# Altium footprint library Connector_PinSocket_2.00mm.PcbLib: 278 footprints (part 17 of 18)
Each footprint in its own frame and in the unit in brackets; x right, y up, seen from the top. Pads: shape width x height; smd on the part's side, far side on the other; paste and mask are expansions set on the pad; w line width, h text height; cw(c..) or ccw(c..) is an arc to the next point about the centre after c.
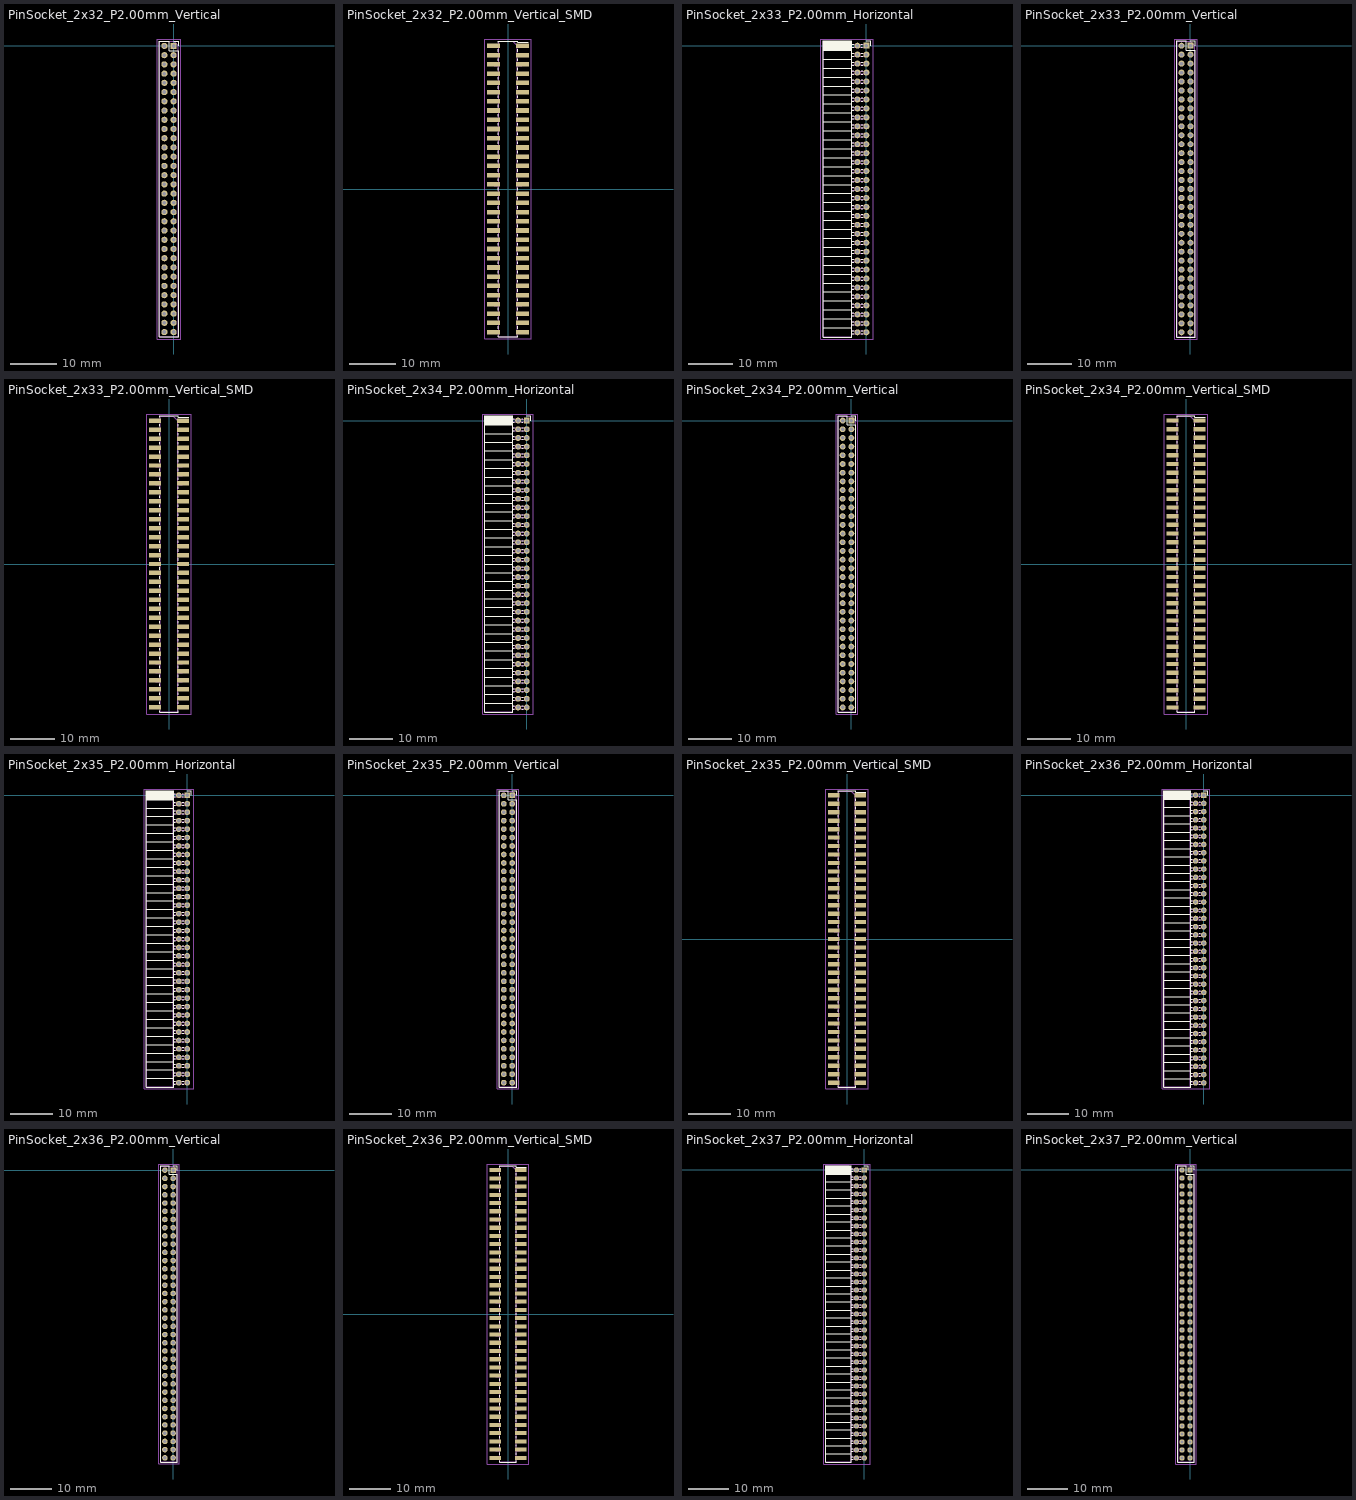
[diagram p16: the footprints below, top view; thin cyan lines are the x and y axes]

## PinSocket_2x32_P2.00mm_Vertical [mm]
pads (64):
  rect 1.35x1.35 hole 0.8: 1(0,0)
  round 1.35 hole 0.8: 2(-2,0) 3(0,-2) 4(-2,-2) 5(0,-4) 6(-2,-4) 7(0,-6) 8(-2,-6) 9(0,-8) 10(-2,-8) 11(0,-10) 12(-2,-10) 13(0,-12) 14(-2,-12) 15(0,-14) 16(-2,-14) 17(0,-16) 18(-2,-16) 19(0,-18) 20(-2,-18) 21(0,-20) 22(-2,-20) 23(0,-22) 24(-2,-22) 25(0,-24) 26(-2,-24) 27(0,-26) 28(-2,-26) 29(0,-28) 30(-2,-28) 31(0,-30) 32(-2,-30) 33(0,-32) 34(-2,-32) 35(0,-34) 36(-2,-34) 37(0,-36) 38(-2,-36) 39(0,-38) 40(-2,-38) 41(0,-40) 42(-2,-40) 43(0,-42) 44(-2,-42) 45(0,-44) 46(-2,-44) 47(0,-46) 48(-2,-46) 49(0,-48) 50(-2,-48) 51(0,-50) 52(-2,-50) 53(0,-52) 54(-2,-52) 55(0,-54) 56(-2,-54) 57(0,-56) 58(-2,-56) 59(0,-58) 60(-2,-58) 61(0,-60) 62(-2,-60) 63(0,-62) 64(-2,-62)
F.SilkS:
  lines w0.254: 0,1.06 1.06,1.06 1.06,0 ; -3.06,-63.06 1.06,-63.06 1.06,-1 -1,-1 -1,1.06 -3.06,1.06 -3.06,-63.06
Top Assembly:
  lines w0.254: -3,-63 1,-63 1,0 0,1 -3,1 -3,-63
  text "'.Designator'" at -0.16,-35.047 h1
Top Courtyard:
  lines w0.254: -3.5,-63.5 1.5,-63.5 1.5,1.5 -3.5,1.5 -3.5,-63.5
Top Designator:
  text ".Designator" at -8.618,-31.508 h1.52

## PinSocket_2x32_P2.00mm_Vertical_SMD [mm]
pads (64):
  rect 2.75x1 smd: 1(3.125,31) 2(-3.125,31) 3(3.125,29) 4(-3.125,29) 5(3.125,27) 6(-3.125,27) 7(3.125,25) 8(-3.125,25) 9(3.125,23) 10(-3.125,23) 11(3.125,21) 12(-3.125,21) 13(3.125,19) 14(-3.125,19) 15(3.125,17) 16(-3.125,17) 17(3.125,15) 18(-3.125,15) 19(3.125,13) 20(-3.125,13) 21(3.125,11) 22(-3.125,11) 23(3.125,9) 24(-3.125,9) 25(3.125,7) 26(-3.125,7) 27(3.125,5) 28(-3.125,5) 29(3.125,3) 30(-3.125,3) 31(3.125,1) 32(-3.125,1) 33(3.125,-1) 34(-3.125,-1) 35(3.125,-3) 36(-3.125,-3) 37(3.125,-5) 38(-3.125,-5) 39(3.125,-7) 40(-3.125,-7) 41(3.125,-9) 42(-3.125,-9) 43(3.125,-11) 44(-3.125,-11) 45(3.125,-13) 46(-3.125,-13) 47(3.125,-15) 48(-3.125,-15) 49(3.125,-17) 50(-3.125,-17) 51(3.125,-19) 52(-3.125,-19) 53(3.125,-21) 54(-3.125,-21) 55(3.125,-23) 56(-3.125,-23) 57(3.125,-25) 58(-3.125,-25) 59(3.125,-27) 60(-3.125,-27) 61(3.125,-29) 62(-3.125,-29) 63(3.125,-31) 64(-3.125,-31)
F.SilkS:
  lines w0.254: -2.06,-31.76 -2.06,-32.06 2.06,-32.06 2.06,-31.76 ; -2.06,-30.24 -2.06,-29.76 ; -2.06,-28.24 -2.06,-27.76 ; -2.06,-26.24 -2.06,-25.76 ; -2.06,-24.24 -2.06,-23.76 ; -2.06,-22.24 -2.06,-21.76 ; -2.06,-20.24 -2.06,-19.76 ; -2.06,-18.24 -2.06,-17.76 ; -2.06,-16.24 -2.06,-15.76 ; -2.06,-14.24 -2.06,-13.76 ; -2.06,-12.24 -2.06,-11.76 ; -2.06,-10.24 -2.06,-9.76 ; -2.06,-8.24 -2.06,-7.76 ; -2.06,-6.24 -2.06,-5.76 ; -2.06,-4.24 -2.06,-3.76 ; -2.06,-2.24 -2.06,-1.76 ; -2.06,-0.24 -2.06,0.24 ; -2.06,1.76 -2.06,2.24 ; -2.06,3.76 -2.06,4.24 ; -2.06,5.76 -2.06,6.24 ; -2.06,7.76 -2.06,8.24 ; -2.06,9.76 -2.06,10.24 ; -2.06,11.76 -2.06,12.24 ; -2.06,13.76 -2.06,14.24 ; -2.06,15.76 -2.06,16.24 ; -2.06,17.76 -2.06,18.24 ; -2.06,19.76 -2.06,20.24 ; -2.06,21.76 -2.06,22.24 ; -2.06,23.76 -2.06,24.24 ; -2.06,25.76 -2.06,26.24 ; -2.06,27.76 -2.06,28.24 ; -2.06,29.76 -2.06,30.24 ; -2.06,31.76 -2.06,32.06 2.06,32.06 2.06,31.76 4.44,31.76 ; 2.06,-30.24 2.06,-29.76 ; 2.06,-28.24 2.06,-27.76 ; 2.06,-26.24 2.06,-25.76 ; 2.06,-24.24 2.06,-23.76 ; 2.06,-22.24 2.06,-21.76 ; 2.06,-20.24 2.06,-19.76 ; 2.06,-18.24 2.06,-17.76 ; 2.06,-16.24 2.06,-15.76 ; 2.06,-14.24 2.06,-13.76 ; 2.06,-12.24 2.06,-11.76 ; 2.06,-10.24 2.06,-9.76 ; 2.06,-8.24 2.06,-7.76 ; 2.06,-6.24 2.06,-5.76 ; 2.06,-4.24 2.06,-3.76 ; 2.06,-2.24 2.06,-1.76 ; 2.06,-0.24 2.06,0.24 ; 2.06,1.76 2.06,2.24 ; 2.06,3.76 2.06,4.24 ; 2.06,5.76 2.06,6.24 ; 2.06,7.76 2.06,8.24 ; 2.06,9.76 2.06,10.24 ; 2.06,11.76 2.06,12.24 ; 2.06,13.76 2.06,14.24 ; 2.06,15.76 2.06,16.24 ; 2.06,17.76 2.06,18.24 ; 2.06,19.76 2.06,20.24 ; 2.06,21.76 2.06,22.24 ; 2.06,23.76 2.06,24.24 ; 2.06,25.76 2.06,26.24 ; 2.06,27.76 2.06,28.24 ; 2.06,29.76 2.06,30.24
Top Assembly:
  drawing of 197 lines, arcs and shapes, not listed
  text "'.Designator'" at 0.84,-4.047 h1
Top Courtyard:
  lines w0.254: -5,-32.5 5,-32.5 5,32.5 -5,32.5 -5,-32.5
Top Designator:
  text ".Designator" at -7.618,-0.508 h1.52

## PinSocket_2x33_P2.00mm_Horizontal [mm]
pads (66):
  rect 1.35x1.35 hole 0.8: 1(0,0)
  round 1.35 hole 0.8: 2(-2,0) 3(0,-2) 4(-2,-2) 5(0,-4) 6(-2,-4) 7(0,-6) 8(-2,-6) 9(0,-8) 10(-2,-8) 11(0,-10) 12(-2,-10) 13(0,-12) 14(-2,-12) 15(0,-14) 16(-2,-14) 17(0,-16) 18(-2,-16) 19(0,-18) 20(-2,-18) 21(0,-20) 22(-2,-20) 23(0,-22) 24(-2,-22) 25(0,-24) 26(-2,-24) 27(0,-26) 28(-2,-26) 29(0,-28) 30(-2,-28) 31(0,-30) 32(-2,-30) 33(0,-32) 34(-2,-32) 35(0,-34) 36(-2,-34) 37(0,-36) 38(-2,-36) 39(0,-38) 40(-2,-38) 41(0,-40) 42(-2,-40) 43(0,-42) 44(-2,-42) 45(0,-44) 46(-2,-44) 47(0,-46) 48(-2,-46) 49(0,-48) 50(-2,-48) 51(0,-50) 52(-2,-50) 53(0,-52) 54(-2,-52) 55(0,-54) 56(-2,-54) 57(0,-56) 58(-2,-56) 59(0,-58) 60(-2,-58) 61(0,-60) 62(-2,-60) 63(0,-62) 64(-2,-62) 65(0,-64) 66(-2,-64)
F.SilkS:
  drawing of 187 lines, arcs and shapes, not listed
Top Assembly:
  lines w0.254: -3.27,-64.3 0,-64.3 0,-63.7 -3.27,-63.7 ; -3.27,-62.3 0,-62.3 0,-61.7 -3.27,-61.7 ; -3.27,-60.3 0,-60.3 0,-59.7 -3.27,-59.7 ; -3.27,-58.3 0,-58.3 0,-57.7 -3.27,-57.7 ; -3.27,-56.3 0,-56.3 0,-55.7 -3.27,-55.7 ; -3.27,-54.3 0,-54.3 0,-53.7 -3.27,-53.7 ; -3.27,-52.3 0,-52.3 0,-51.7 -3.27,-51.7 ; -3.27,-50.3 0,-50.3 0,-49.7 -3.27,-49.7 ; -3.27,-48.3 0,-48.3 0,-47.7 -3.27,-47.7 ; -3.27,-46.3 0,-46.3 0,-45.7 -3.27,-45.7 ; -3.27,-44.3 0,-44.3 0,-43.7 -3.27,-43.7 ; -3.27,-42.3 0,-42.3 0,-41.7 -3.27,-41.7 ; -3.27,-40.3 0,-40.3 0,-39.7 -3.27,-39.7 ; -3.27,-38.3 0,-38.3 0,-37.7 -3.27,-37.7 ; -3.27,-36.3 0,-36.3 0,-35.7 -3.27,-35.7 ; -3.27,-34.3 0,-34.3 0,-33.7 -3.27,-33.7 ; -3.27,-32.3 0,-32.3 0,-31.7 -3.27,-31.7 ; -3.27,-30.3 0,-30.3 0,-29.7 -3.27,-29.7 ; -3.27,-28.3 0,-28.3 0,-27.7 -3.27,-27.7 ; -3.27,-26.3 0,-26.3 0,-25.7 -3.27,-25.7 ; -3.27,-24.3 0,-24.3 0,-23.7 -3.27,-23.7 ; -3.27,-22.3 0,-22.3 0,-21.7 -3.27,-21.7 ; -3.27,-20.3 0,-20.3 0,-19.7 -3.27,-19.7 ; -3.27,-18.3 0,-18.3 0,-17.7 -3.27,-17.7 ; -3.27,-16.3 0,-16.3 0,-15.7 -3.27,-15.7 ; -3.27,-14.3 0,-14.3 0,-13.7 -3.27,-13.7 ; -3.27,-12.3 0,-12.3 0,-11.7 -3.27,-11.7 ; -3.27,-10.3 0,-10.3 0,-9.7 -3.27,-9.7 ; -3.27,-8.3 0,-8.3 0,-7.7 -3.27,-7.7 ; -3.27,-6.3 0,-6.3 0,-5.7 -3.27,-5.7 ; -3.27,-4.3 0,-4.3 0,-3.7 -3.27,-3.7 ; -3.27,-2.3 0,-2.3 0,-1.7 -3.27,-1.7 ; -3.27,-0.3 0,-0.3 0,0.3 -3.27,0.3 ; -3.27,0.3 -3.27,-65 -9.62,-65 -9.62,1 -3.97,1 -3.27,0.3
  text "'.Designator'" at -5.605,-36.047 h1
Top Courtyard:
  lines w0.254: -10.15,-65.5 1.5,-65.5 1.5,1.5 -10.15,1.5 -10.15,-65.5
Top Designator:
  text ".Designator" at -11.943,-32.508 h1.52

## PinSocket_2x33_P2.00mm_Vertical [mm]
pads (66):
  rect 1.35x1.35 hole 0.8: 1(0,0)
  round 1.35 hole 0.8: 2(-2,0) 3(0,-2) 4(-2,-2) 5(0,-4) 6(-2,-4) 7(0,-6) 8(-2,-6) 9(0,-8) 10(-2,-8) 11(0,-10) 12(-2,-10) 13(0,-12) 14(-2,-12) 15(0,-14) 16(-2,-14) 17(0,-16) 18(-2,-16) 19(0,-18) 20(-2,-18) 21(0,-20) 22(-2,-20) 23(0,-22) 24(-2,-22) 25(0,-24) 26(-2,-24) 27(0,-26) 28(-2,-26) 29(0,-28) 30(-2,-28) 31(0,-30) 32(-2,-30) 33(0,-32) 34(-2,-32) 35(0,-34) 36(-2,-34) 37(0,-36) 38(-2,-36) 39(0,-38) 40(-2,-38) 41(0,-40) 42(-2,-40) 43(0,-42) 44(-2,-42) 45(0,-44) 46(-2,-44) 47(0,-46) 48(-2,-46) 49(0,-48) 50(-2,-48) 51(0,-50) 52(-2,-50) 53(0,-52) 54(-2,-52) 55(0,-54) 56(-2,-54) 57(0,-56) 58(-2,-56) 59(0,-58) 60(-2,-58) 61(0,-60) 62(-2,-60) 63(0,-62) 64(-2,-62) 65(0,-64) 66(-2,-64)
F.SilkS:
  lines w0.254: 0,1.06 1.06,1.06 1.06,0 ; -3.06,-65.06 1.06,-65.06 1.06,-1 -1,-1 -1,1.06 -3.06,1.06 -3.06,-65.06
Top Assembly:
  lines w0.254: -3,-65 1,-65 1,0 0,1 -3,1 -3,-65
  text "'.Designator'" at -0.16,-36.047 h1
Top Courtyard:
  lines w0.254: -3.5,-65.5 1.5,-65.5 1.5,1.5 -3.5,1.5 -3.5,-65.5
Top Designator:
  text ".Designator" at -8.618,-32.508 h1.52

## PinSocket_2x33_P2.00mm_Vertical_SMD [mm]
pads (66):
  rect 2.75x1 smd: 1(3.125,32) 2(-3.125,32) 3(3.125,30) 4(-3.125,30) 5(3.125,28) 6(-3.125,28) 7(3.125,26) 8(-3.125,26) 9(3.125,24) 10(-3.125,24) 11(3.125,22) 12(-3.125,22) 13(3.125,20) 14(-3.125,20) 15(3.125,18) 16(-3.125,18) 17(3.125,16) 18(-3.125,16) 19(3.125,14) 20(-3.125,14) 21(3.125,12) 22(-3.125,12) 23(3.125,10) 24(-3.125,10) 25(3.125,8) 26(-3.125,8) 27(3.125,6) 28(-3.125,6) 29(3.125,4) 30(-3.125,4) 31(3.125,2) 32(-3.125,2) 33(3.125,0) 34(-3.125,0) 35(3.125,-2) 36(-3.125,-2) 37(3.125,-4) 38(-3.125,-4) 39(3.125,-6) 40(-3.125,-6) 41(3.125,-8) 42(-3.125,-8) 43(3.125,-10) 44(-3.125,-10) 45(3.125,-12) 46(-3.125,-12) 47(3.125,-14) 48(-3.125,-14) 49(3.125,-16) 50(-3.125,-16) 51(3.125,-18) 52(-3.125,-18) 53(3.125,-20) 54(-3.125,-20) 55(3.125,-22) 56(-3.125,-22) 57(3.125,-24) 58(-3.125,-24) 59(3.125,-26) 60(-3.125,-26) 61(3.125,-28) 62(-3.125,-28) 63(3.125,-30) 64(-3.125,-30) 65(3.125,-32) 66(-3.125,-32)
F.SilkS:
  lines w0.254: -2.06,-32.76 -2.06,-33.06 2.06,-33.06 2.06,-32.76 ; -2.06,-31.24 -2.06,-30.76 ; -2.06,-29.24 -2.06,-28.76 ; -2.06,-27.24 -2.06,-26.76 ; -2.06,-25.24 -2.06,-24.76 ; -2.06,-23.24 -2.06,-22.76 ; -2.06,-21.24 -2.06,-20.76 ; -2.06,-19.24 -2.06,-18.76 ; -2.06,-17.24 -2.06,-16.76 ; -2.06,-15.24 -2.06,-14.76 ; -2.06,-13.24 -2.06,-12.76 ; -2.06,-11.24 -2.06,-10.76 ; -2.06,-9.24 -2.06,-8.76 ; -2.06,-7.24 -2.06,-6.76 ; -2.06,-5.24 -2.06,-4.76 ; -2.06,-3.24 -2.06,-2.76 ; -2.06,-1.24 -2.06,-0.76 ; -2.06,0.76 -2.06,1.24 ; -2.06,2.76 -2.06,3.24 ; -2.06,4.76 -2.06,5.24 ; -2.06,6.76 -2.06,7.24 ; -2.06,8.76 -2.06,9.24 ; -2.06,10.76 -2.06,11.24 ; -2.06,12.76 -2.06,13.24 ; -2.06,14.76 -2.06,15.24 ; -2.06,16.76 -2.06,17.24 ; -2.06,18.76 -2.06,19.24 ; -2.06,20.76 -2.06,21.24 ; -2.06,22.76 -2.06,23.24 ; -2.06,24.76 -2.06,25.24 ; -2.06,26.76 -2.06,27.24 ; -2.06,28.76 -2.06,29.24 ; -2.06,30.76 -2.06,31.24 ; -2.06,32.76 -2.06,33.06 2.06,33.06 2.06,32.76 4.44,32.76 ; 2.06,-31.24 2.06,-30.76 ; 2.06,-29.24 2.06,-28.76 ; 2.06,-27.24 2.06,-26.76 ; 2.06,-25.24 2.06,-24.76 ; 2.06,-23.24 2.06,-22.76 ; 2.06,-21.24 2.06,-20.76 ; 2.06,-19.24 2.06,-18.76 ; 2.06,-17.24 2.06,-16.76 ; 2.06,-15.24 2.06,-14.76 ; 2.06,-13.24 2.06,-12.76 ; 2.06,-11.24 2.06,-10.76 ; 2.06,-9.24 2.06,-8.76 ; 2.06,-7.24 2.06,-6.76 ; 2.06,-5.24 2.06,-4.76 ; 2.06,-3.24 2.06,-2.76 ; 2.06,-1.24 2.06,-0.76 ; 2.06,0.76 2.06,1.24 ; 2.06,2.76 2.06,3.24 ; 2.06,4.76 2.06,5.24 ; 2.06,6.76 2.06,7.24 ; 2.06,8.76 2.06,9.24 ; 2.06,10.76 2.06,11.24 ; 2.06,12.76 2.06,13.24 ; 2.06,14.76 2.06,15.24 ; 2.06,16.76 2.06,17.24 ; 2.06,18.76 2.06,19.24 ; 2.06,20.76 2.06,21.24 ; 2.06,22.76 2.06,23.24 ; 2.06,24.76 2.06,25.24 ; 2.06,26.76 2.06,27.24 ; 2.06,28.76 2.06,29.24 ; 2.06,30.76 2.06,31.24
Top Assembly:
  drawing of 203 lines, arcs and shapes, not listed
  text "'.Designator'" at 0.84,-4.047 h1
Top Courtyard:
  lines w0.254: -5,-33.5 5,-33.5 5,33.5 -5,33.5 -5,-33.5
Top Designator:
  text ".Designator" at -7.618,-0.508 h1.52

## PinSocket_2x34_P2.00mm_Horizontal [mm]
pads (68):
  rect 1.35x1.35 hole 0.8: 1(0,0)
  round 1.35 hole 0.8: 2(-2,0) 3(0,-2) 4(-2,-2) 5(0,-4) 6(-2,-4) 7(0,-6) 8(-2,-6) 9(0,-8) 10(-2,-8) 11(0,-10) 12(-2,-10) 13(0,-12) 14(-2,-12) 15(0,-14) 16(-2,-14) 17(0,-16) 18(-2,-16) 19(0,-18) 20(-2,-18) 21(0,-20) 22(-2,-20) 23(0,-22) 24(-2,-22) 25(0,-24) 26(-2,-24) 27(0,-26) 28(-2,-26) 29(0,-28) 30(-2,-28) 31(0,-30) 32(-2,-30) 33(0,-32) 34(-2,-32) 35(0,-34) 36(-2,-34) 37(0,-36) 38(-2,-36) 39(0,-38) 40(-2,-38) 41(0,-40) 42(-2,-40) 43(0,-42) 44(-2,-42) 45(0,-44) 46(-2,-44) 47(0,-46) 48(-2,-46) 49(0,-48) 50(-2,-48) 51(0,-50) 52(-2,-50) 53(0,-52) 54(-2,-52) 55(0,-54) 56(-2,-54) 57(0,-56) 58(-2,-56) 59(0,-58) 60(-2,-58) 61(0,-60) 62(-2,-60) 63(0,-62) 64(-2,-62) 65(0,-64) 66(-2,-64) 67(0,-66) 68(-2,-66)
F.SilkS:
  drawing of 192 lines, arcs and shapes, not listed
Top Assembly:
  lines w0.254: -3.27,-66.3 0,-66.3 0,-65.7 -3.27,-65.7 ; -3.27,-64.3 0,-64.3 0,-63.7 -3.27,-63.7 ; -3.27,-62.3 0,-62.3 0,-61.7 -3.27,-61.7 ; -3.27,-60.3 0,-60.3 0,-59.7 -3.27,-59.7 ; -3.27,-58.3 0,-58.3 0,-57.7 -3.27,-57.7 ; -3.27,-56.3 0,-56.3 0,-55.7 -3.27,-55.7 ; -3.27,-54.3 0,-54.3 0,-53.7 -3.27,-53.7 ; -3.27,-52.3 0,-52.3 0,-51.7 -3.27,-51.7 ; -3.27,-50.3 0,-50.3 0,-49.7 -3.27,-49.7 ; -3.27,-48.3 0,-48.3 0,-47.7 -3.27,-47.7 ; -3.27,-46.3 0,-46.3 0,-45.7 -3.27,-45.7 ; -3.27,-44.3 0,-44.3 0,-43.7 -3.27,-43.7 ; -3.27,-42.3 0,-42.3 0,-41.7 -3.27,-41.7 ; -3.27,-40.3 0,-40.3 0,-39.7 -3.27,-39.7 ; -3.27,-38.3 0,-38.3 0,-37.7 -3.27,-37.7 ; -3.27,-36.3 0,-36.3 0,-35.7 -3.27,-35.7 ; -3.27,-34.3 0,-34.3 0,-33.7 -3.27,-33.7 ; -3.27,-32.3 0,-32.3 0,-31.7 -3.27,-31.7 ; -3.27,-30.3 0,-30.3 0,-29.7 -3.27,-29.7 ; -3.27,-28.3 0,-28.3 0,-27.7 -3.27,-27.7 ; -3.27,-26.3 0,-26.3 0,-25.7 -3.27,-25.7 ; -3.27,-24.3 0,-24.3 0,-23.7 -3.27,-23.7 ; -3.27,-22.3 0,-22.3 0,-21.7 -3.27,-21.7 ; -3.27,-20.3 0,-20.3 0,-19.7 -3.27,-19.7 ; -3.27,-18.3 0,-18.3 0,-17.7 -3.27,-17.7 ; -3.27,-16.3 0,-16.3 0,-15.7 -3.27,-15.7 ; -3.27,-14.3 0,-14.3 0,-13.7 -3.27,-13.7 ; -3.27,-12.3 0,-12.3 0,-11.7 -3.27,-11.7 ; -3.27,-10.3 0,-10.3 0,-9.7 -3.27,-9.7 ; -3.27,-8.3 0,-8.3 0,-7.7 -3.27,-7.7 ; -3.27,-6.3 0,-6.3 0,-5.7 -3.27,-5.7 ; -3.27,-4.3 0,-4.3 0,-3.7 -3.27,-3.7 ; -3.27,-2.3 0,-2.3 0,-1.7 -3.27,-1.7 ; -3.27,-0.3 0,-0.3 0,0.3 -3.27,0.3 ; -3.27,0.3 -3.27,-67 -9.62,-67 -9.62,1 -3.97,1 -3.27,0.3
  text "'.Designator'" at -5.605,-37.047 h1
Top Courtyard:
  lines w0.254: -10.15,-67.5 1.5,-67.5 1.5,1.5 -10.15,1.5 -10.15,-67.5
Top Designator:
  text ".Designator" at -11.943,-33.508 h1.52

## PinSocket_2x34_P2.00mm_Vertical [mm]
pads (68):
  rect 1.35x1.35 hole 0.8: 1(0,0)
  round 1.35 hole 0.8: 2(-2,0) 3(0,-2) 4(-2,-2) 5(0,-4) 6(-2,-4) 7(0,-6) 8(-2,-6) 9(0,-8) 10(-2,-8) 11(0,-10) 12(-2,-10) 13(0,-12) 14(-2,-12) 15(0,-14) 16(-2,-14) 17(0,-16) 18(-2,-16) 19(0,-18) 20(-2,-18) 21(0,-20) 22(-2,-20) 23(0,-22) 24(-2,-22) 25(0,-24) 26(-2,-24) 27(0,-26) 28(-2,-26) 29(0,-28) 30(-2,-28) 31(0,-30) 32(-2,-30) 33(0,-32) 34(-2,-32) 35(0,-34) 36(-2,-34) 37(0,-36) 38(-2,-36) 39(0,-38) 40(-2,-38) 41(0,-40) 42(-2,-40) 43(0,-42) 44(-2,-42) 45(0,-44) 46(-2,-44) 47(0,-46) 48(-2,-46) 49(0,-48) 50(-2,-48) 51(0,-50) 52(-2,-50) 53(0,-52) 54(-2,-52) 55(0,-54) 56(-2,-54) 57(0,-56) 58(-2,-56) 59(0,-58) 60(-2,-58) 61(0,-60) 62(-2,-60) 63(0,-62) 64(-2,-62) 65(0,-64) 66(-2,-64) 67(0,-66) 68(-2,-66)
F.SilkS:
  lines w0.254: 0,1.06 1.06,1.06 1.06,0 ; -3.06,-67.06 1.06,-67.06 1.06,-1 -1,-1 -1,1.06 -3.06,1.06 -3.06,-67.06
Top Assembly:
  lines w0.254: -3,-67 1,-67 1,0 0,1 -3,1 -3,-67
  text "'.Designator'" at -0.16,-37.047 h1
Top Courtyard:
  lines w0.254: -3.5,-67.5 1.5,-67.5 1.5,1.5 -3.5,1.5 -3.5,-67.5
Top Designator:
  text ".Designator" at -8.618,-33.508 h1.52

## PinSocket_2x34_P2.00mm_Vertical_SMD [mm]
pads (68):
  rect 2.75x1 smd: 1(3.125,33) 2(-3.125,33) 3(3.125,31) 4(-3.125,31) 5(3.125,29) 6(-3.125,29) 7(3.125,27) 8(-3.125,27) 9(3.125,25) 10(-3.125,25) 11(3.125,23) 12(-3.125,23) 13(3.125,21) 14(-3.125,21) 15(3.125,19) 16(-3.125,19) 17(3.125,17) 18(-3.125,17) 19(3.125,15) 20(-3.125,15) 21(3.125,13) 22(-3.125,13) 23(3.125,11) 24(-3.125,11) 25(3.125,9) 26(-3.125,9) 27(3.125,7) 28(-3.125,7) 29(3.125,5) 30(-3.125,5) 31(3.125,3) 32(-3.125,3) 33(3.125,1) 34(-3.125,1) 35(3.125,-1) 36(-3.125,-1) 37(3.125,-3) 38(-3.125,-3) 39(3.125,-5) 40(-3.125,-5) 41(3.125,-7) 42(-3.125,-7) 43(3.125,-9) 44(-3.125,-9) 45(3.125,-11) 46(-3.125,-11) 47(3.125,-13) 48(-3.125,-13) 49(3.125,-15) 50(-3.125,-15) 51(3.125,-17) 52(-3.125,-17) 53(3.125,-19) 54(-3.125,-19) 55(3.125,-21) 56(-3.125,-21) 57(3.125,-23) 58(-3.125,-23) 59(3.125,-25) 60(-3.125,-25) 61(3.125,-27) 62(-3.125,-27) 63(3.125,-29) 64(-3.125,-29) 65(3.125,-31) 66(-3.125,-31) 67(3.125,-33) 68(-3.125,-33)
F.SilkS:
  lines w0.254: -2.06,-33.76 -2.06,-34.06 2.06,-34.06 2.06,-33.76 ; -2.06,-32.24 -2.06,-31.76 ; -2.06,-30.24 -2.06,-29.76 ; -2.06,-28.24 -2.06,-27.76 ; -2.06,-26.24 -2.06,-25.76 ; -2.06,-24.24 -2.06,-23.76 ; -2.06,-22.24 -2.06,-21.76 ; -2.06,-20.24 -2.06,-19.76 ; -2.06,-18.24 -2.06,-17.76 ; -2.06,-16.24 -2.06,-15.76 ; -2.06,-14.24 -2.06,-13.76 ; -2.06,-12.24 -2.06,-11.76 ; -2.06,-10.24 -2.06,-9.76 ; -2.06,-8.24 -2.06,-7.76 ; -2.06,-6.24 -2.06,-5.76 ; -2.06,-4.24 -2.06,-3.76 ; -2.06,-2.24 -2.06,-1.76 ; -2.06,-0.24 -2.06,0.24 ; -2.06,1.76 -2.06,2.24 ; -2.06,3.76 -2.06,4.24 ; -2.06,5.76 -2.06,6.24 ; -2.06,7.76 -2.06,8.24 ; -2.06,9.76 -2.06,10.24 ; -2.06,11.76 -2.06,12.24 ; -2.06,13.76 -2.06,14.24 ; -2.06,15.76 -2.06,16.24 ; -2.06,17.76 -2.06,18.24 ; -2.06,19.76 -2.06,20.24 ; -2.06,21.76 -2.06,22.24 ; -2.06,23.76 -2.06,24.24 ; -2.06,25.76 -2.06,26.24 ; -2.06,27.76 -2.06,28.24 ; -2.06,29.76 -2.06,30.24 ; -2.06,31.76 -2.06,32.24 ; -2.06,33.76 -2.06,34.06 2.06,34.06 2.06,33.76 4.44,33.76 ; 2.06,-32.24 2.06,-31.76 ; 2.06,-30.24 2.06,-29.76 ; 2.06,-28.24 2.06,-27.76 ; 2.06,-26.24 2.06,-25.76 ; 2.06,-24.24 2.06,-23.76 ; 2.06,-22.24 2.06,-21.76 ; 2.06,-20.24 2.06,-19.76 ; 2.06,-18.24 2.06,-17.76 ; 2.06,-16.24 2.06,-15.76 ; 2.06,-14.24 2.06,-13.76 ; 2.06,-12.24 2.06,-11.76 ; 2.06,-10.24 2.06,-9.76 ; 2.06,-8.24 2.06,-7.76 ; 2.06,-6.24 2.06,-5.76 ; 2.06,-4.24 2.06,-3.76 ; 2.06,-2.24 2.06,-1.76 ; 2.06,-0.24 2.06,0.24 ; 2.06,1.76 2.06,2.24 ; 2.06,3.76 2.06,4.24 ; 2.06,5.76 2.06,6.24 ; 2.06,7.76 2.06,8.24 ; 2.06,9.76 2.06,10.24 ; 2.06,11.76 2.06,12.24 ; 2.06,13.76 2.06,14.24 ; 2.06,15.76 2.06,16.24 ; 2.06,17.76 2.06,18.24 ; 2.06,19.76 2.06,20.24 ; 2.06,21.76 2.06,22.24 ; 2.06,23.76 2.06,24.24 ; 2.06,25.76 2.06,26.24 ; 2.06,27.76 2.06,28.24 ; 2.06,29.76 2.06,30.24 ; 2.06,31.76 2.06,32.24
Top Assembly:
  drawing of 209 lines, arcs and shapes, not listed
  text "'.Designator'" at 0.84,-4.047 h1
Top Courtyard:
  lines w0.254: -5,-34.5 5,-34.5 5,34.5 -5,34.5 -5,-34.5
Top Designator:
  text ".Designator" at -7.618,-0.508 h1.52

## PinSocket_2x35_P2.00mm_Horizontal [mm]
pads (70):
  rect 1.35x1.35 hole 0.8: 1(0,0)
  round 1.35 hole 0.8: 2(-2,0) 3(0,-2) 4(-2,-2) 5(0,-4) 6(-2,-4) 7(0,-6) 8(-2,-6) 9(0,-8) 10(-2,-8) 11(0,-10) 12(-2,-10) 13(0,-12) 14(-2,-12) 15(0,-14) 16(-2,-14) 17(0,-16) 18(-2,-16) 19(0,-18) 20(-2,-18) 21(0,-20) 22(-2,-20) 23(0,-22) 24(-2,-22) 25(0,-24) 26(-2,-24) 27(0,-26) 28(-2,-26) 29(0,-28) 30(-2,-28) 31(0,-30) 32(-2,-30) 33(0,-32) 34(-2,-32) 35(0,-34) 36(-2,-34) 37(0,-36) 38(-2,-36) 39(0,-38) 40(-2,-38) 41(0,-40) 42(-2,-40) 43(0,-42) 44(-2,-42) 45(0,-44) 46(-2,-44) 47(0,-46) 48(-2,-46) 49(0,-48) 50(-2,-48) 51(0,-50) 52(-2,-50) 53(0,-52) 54(-2,-52) 55(0,-54) 56(-2,-54) 57(0,-56) 58(-2,-56) 59(0,-58) 60(-2,-58) 61(0,-60) 62(-2,-60) 63(0,-62) 64(-2,-62) 65(0,-64) 66(-2,-64) 67(0,-66) 68(-2,-66) 69(0,-68) 70(-2,-68)
F.SilkS:
  drawing of 197 lines, arcs and shapes, not listed
Top Assembly:
  lines w0.254: -3.27,-68.3 0,-68.3 0,-67.7 -3.27,-67.7 ; -3.27,-66.3 0,-66.3 0,-65.7 -3.27,-65.7 ; -3.27,-64.3 0,-64.3 0,-63.7 -3.27,-63.7 ; -3.27,-62.3 0,-62.3 0,-61.7 -3.27,-61.7 ; -3.27,-60.3 0,-60.3 0,-59.7 -3.27,-59.7 ; -3.27,-58.3 0,-58.3 0,-57.7 -3.27,-57.7 ; -3.27,-56.3 0,-56.3 0,-55.7 -3.27,-55.7 ; -3.27,-54.3 0,-54.3 0,-53.7 -3.27,-53.7 ; -3.27,-52.3 0,-52.3 0,-51.7 -3.27,-51.7 ; -3.27,-50.3 0,-50.3 0,-49.7 -3.27,-49.7 ; -3.27,-48.3 0,-48.3 0,-47.7 -3.27,-47.7 ; -3.27,-46.3 0,-46.3 0,-45.7 -3.27,-45.7 ; -3.27,-44.3 0,-44.3 0,-43.7 -3.27,-43.7 ; -3.27,-42.3 0,-42.3 0,-41.7 -3.27,-41.7 ; -3.27,-40.3 0,-40.3 0,-39.7 -3.27,-39.7 ; -3.27,-38.3 0,-38.3 0,-37.7 -3.27,-37.7 ; -3.27,-36.3 0,-36.3 0,-35.7 -3.27,-35.7 ; -3.27,-34.3 0,-34.3 0,-33.7 -3.27,-33.7 ; -3.27,-32.3 0,-32.3 0,-31.7 -3.27,-31.7 ; -3.27,-30.3 0,-30.3 0,-29.7 -3.27,-29.7 ; -3.27,-28.3 0,-28.3 0,-27.7 -3.27,-27.7 ; -3.27,-26.3 0,-26.3 0,-25.7 -3.27,-25.7 ; -3.27,-24.3 0,-24.3 0,-23.7 -3.27,-23.7 ; -3.27,-22.3 0,-22.3 0,-21.7 -3.27,-21.7 ; -3.27,-20.3 0,-20.3 0,-19.7 -3.27,-19.7 ; -3.27,-18.3 0,-18.3 0,-17.7 -3.27,-17.7 ; -3.27,-16.3 0,-16.3 0,-15.7 -3.27,-15.7 ; -3.27,-14.3 0,-14.3 0,-13.7 -3.27,-13.7 ; -3.27,-12.3 0,-12.3 0,-11.7 -3.27,-11.7 ; -3.27,-10.3 0,-10.3 0,-9.7 -3.27,-9.7 ; -3.27,-8.3 0,-8.3 0,-7.7 -3.27,-7.7 ; -3.27,-6.3 0,-6.3 0,-5.7 -3.27,-5.7 ; -3.27,-4.3 0,-4.3 0,-3.7 -3.27,-3.7 ; -3.27,-2.3 0,-2.3 0,-1.7 -3.27,-1.7 ; -3.27,-0.3 0,-0.3 0,0.3 -3.27,0.3 ; -3.27,0.3 -3.27,-69 -9.62,-69 -9.62,1 -3.97,1 -3.27,0.3
  text "'.Designator'" at -5.605,-38.047 h1
Top Courtyard:
  lines w0.254: -10.15,-69.5 1.5,-69.5 1.5,1.5 -10.15,1.5 -10.15,-69.5
Top Designator:
  text ".Designator" at -11.943,-34.508 h1.52

## PinSocket_2x35_P2.00mm_Vertical [mm]
pads (70):
  rect 1.35x1.35 hole 0.8: 1(0,0)
  round 1.35 hole 0.8: 2(-2,0) 3(0,-2) 4(-2,-2) 5(0,-4) 6(-2,-4) 7(0,-6) 8(-2,-6) 9(0,-8) 10(-2,-8) 11(0,-10) 12(-2,-10) 13(0,-12) 14(-2,-12) 15(0,-14) 16(-2,-14) 17(0,-16) 18(-2,-16) 19(0,-18) 20(-2,-18) 21(0,-20) 22(-2,-20) 23(0,-22) 24(-2,-22) 25(0,-24) 26(-2,-24) 27(0,-26) 28(-2,-26) 29(0,-28) 30(-2,-28) 31(0,-30) 32(-2,-30) 33(0,-32) 34(-2,-32) 35(0,-34) 36(-2,-34) 37(0,-36) 38(-2,-36) 39(0,-38) 40(-2,-38) 41(0,-40) 42(-2,-40) 43(0,-42) 44(-2,-42) 45(0,-44) 46(-2,-44) 47(0,-46) 48(-2,-46) 49(0,-48) 50(-2,-48) 51(0,-50) 52(-2,-50) 53(0,-52) 54(-2,-52) 55(0,-54) 56(-2,-54) 57(0,-56) 58(-2,-56) 59(0,-58) 60(-2,-58) 61(0,-60) 62(-2,-60) 63(0,-62) 64(-2,-62) 65(0,-64) 66(-2,-64) 67(0,-66) 68(-2,-66) 69(0,-68) 70(-2,-68)
F.SilkS:
  lines w0.254: 0,1.06 1.06,1.06 1.06,0 ; -3.06,-69.06 1.06,-69.06 1.06,-1 -1,-1 -1,1.06 -3.06,1.06 -3.06,-69.06
Top Assembly:
  lines w0.254: -3,-69 1,-69 1,0 0,1 -3,1 -3,-69
  text "'.Designator'" at -0.16,-38.047 h1
Top Courtyard:
  lines w0.254: -3.5,-69.5 1.5,-69.5 1.5,1.5 -3.5,1.5 -3.5,-69.5
Top Designator:
  text ".Designator" at -8.618,-34.508 h1.52

## PinSocket_2x35_P2.00mm_Vertical_SMD [mm]
pads (70):
  rect 2.75x1 smd: 1(3.125,34) 2(-3.125,34) 3(3.125,32) 4(-3.125,32) 5(3.125,30) 6(-3.125,30) 7(3.125,28) 8(-3.125,28) 9(3.125,26) 10(-3.125,26) 11(3.125,24) 12(-3.125,24) 13(3.125,22) 14(-3.125,22) 15(3.125,20) 16(-3.125,20) 17(3.125,18) 18(-3.125,18) 19(3.125,16) 20(-3.125,16) 21(3.125,14) 22(-3.125,14) 23(3.125,12) 24(-3.125,12) 25(3.125,10) 26(-3.125,10) 27(3.125,8) 28(-3.125,8) 29(3.125,6) 30(-3.125,6) 31(3.125,4) 32(-3.125,4) 33(3.125,2) 34(-3.125,2) 35(3.125,0) 36(-3.125,0) 37(3.125,-2) 38(-3.125,-2) 39(3.125,-4) 40(-3.125,-4) 41(3.125,-6) 42(-3.125,-6) 43(3.125,-8) 44(-3.125,-8) 45(3.125,-10) 46(-3.125,-10) 47(3.125,-12) 48(-3.125,-12) 49(3.125,-14) 50(-3.125,-14) 51(3.125,-16) 52(-3.125,-16) 53(3.125,-18) 54(-3.125,-18) 55(3.125,-20) 56(-3.125,-20) 57(3.125,-22) 58(-3.125,-22) 59(3.125,-24) 60(-3.125,-24) 61(3.125,-26) 62(-3.125,-26) 63(3.125,-28) 64(-3.125,-28) 65(3.125,-30) 66(-3.125,-30) 67(3.125,-32) 68(-3.125,-32) 69(3.125,-34) 70(-3.125,-34)
F.SilkS:
  lines w0.254: -2.06,-34.76 -2.06,-35.06 2.06,-35.06 2.06,-34.76 ; -2.06,-33.24 -2.06,-32.76 ; -2.06,-31.24 -2.06,-30.76 ; -2.06,-29.24 -2.06,-28.76 ; -2.06,-27.24 -2.06,-26.76 ; -2.06,-25.24 -2.06,-24.76 ; -2.06,-23.24 -2.06,-22.76 ; -2.06,-21.24 -2.06,-20.76 ; -2.06,-19.24 -2.06,-18.76 ; -2.06,-17.24 -2.06,-16.76 ; -2.06,-15.24 -2.06,-14.76 ; -2.06,-13.24 -2.06,-12.76 ; -2.06,-11.24 -2.06,-10.76 ; -2.06,-9.24 -2.06,-8.76 ; -2.06,-7.24 -2.06,-6.76 ; -2.06,-5.24 -2.06,-4.76 ; -2.06,-3.24 -2.06,-2.76 ; -2.06,-1.24 -2.06,-0.76 ; -2.06,0.76 -2.06,1.24 ; -2.06,2.76 -2.06,3.24 ; -2.06,4.76 -2.06,5.24 ; -2.06,6.76 -2.06,7.24 ; -2.06,8.76 -2.06,9.24 ; -2.06,10.76 -2.06,11.24 ; -2.06,12.76 -2.06,13.24 ; -2.06,14.76 -2.06,15.24 ; -2.06,16.76 -2.06,17.24 ; -2.06,18.76 -2.06,19.24 ; -2.06,20.76 -2.06,21.24 ; -2.06,22.76 -2.06,23.24 ; -2.06,24.76 -2.06,25.24 ; -2.06,26.76 -2.06,27.24 ; -2.06,28.76 -2.06,29.24 ; -2.06,30.76 -2.06,31.24 ; -2.06,32.76 -2.06,33.24 ; -2.06,34.76 -2.06,35.06 2.06,35.06 2.06,34.76 4.44,34.76 ; 2.06,-33.24 2.06,-32.76 ; 2.06,-31.24 2.06,-30.76 ; 2.06,-29.24 2.06,-28.76 ; 2.06,-27.24 2.06,-26.76 ; 2.06,-25.24 2.06,-24.76 ; 2.06,-23.24 2.06,-22.76 ; 2.06,-21.24 2.06,-20.76 ; 2.06,-19.24 2.06,-18.76 ; 2.06,-17.24 2.06,-16.76 ; 2.06,-15.24 2.06,-14.76 ; 2.06,-13.24 2.06,-12.76 ; 2.06,-11.24 2.06,-10.76 ; 2.06,-9.24 2.06,-8.76 ; 2.06,-7.24 2.06,-6.76 ; 2.06,-5.24 2.06,-4.76 ; 2.06,-3.24 2.06,-2.76 ; 2.06,-1.24 2.06,-0.76 ; 2.06,0.76 2.06,1.24 ; 2.06,2.76 2.06,3.24 ; 2.06,4.76 2.06,5.24 ; 2.06,6.76 2.06,7.24 ; 2.06,8.76 2.06,9.24 ; 2.06,10.76 2.06,11.24 ; 2.06,12.76 2.06,13.24 ; 2.06,14.76 2.06,15.24 ; 2.06,16.76 2.06,17.24 ; 2.06,18.76 2.06,19.24 ; 2.06,20.76 2.06,21.24 ; 2.06,22.76 2.06,23.24 ; 2.06,24.76 2.06,25.24 ; 2.06,26.76 2.06,27.24 ; 2.06,28.76 2.06,29.24 ; 2.06,30.76 2.06,31.24 ; 2.06,32.76 2.06,33.24
Top Assembly:
  drawing of 215 lines, arcs and shapes, not listed
  text "'.Designator'" at 0.84,-4.047 h1
Top Courtyard:
  lines w0.254: -5,-35.5 5,-35.5 5,35.5 -5,35.5 -5,-35.5
Top Designator:
  text ".Designator" at -7.618,-0.508 h1.52

## PinSocket_2x36_P2.00mm_Horizontal [mm]
pads (72):
  rect 1.35x1.35 hole 0.8: 1(0,0)
  round 1.35 hole 0.8: 2(-2,0) 3(0,-2) 4(-2,-2) 5(0,-4) 6(-2,-4) 7(0,-6) 8(-2,-6) 9(0,-8) 10(-2,-8) 11(0,-10) 12(-2,-10) 13(0,-12) 14(-2,-12) 15(0,-14) 16(-2,-14) 17(0,-16) 18(-2,-16) 19(0,-18) 20(-2,-18) 21(0,-20) 22(-2,-20) 23(0,-22) 24(-2,-22) 25(0,-24) 26(-2,-24) 27(0,-26) 28(-2,-26) 29(0,-28) 30(-2,-28) 31(0,-30) 32(-2,-30) 33(0,-32) 34(-2,-32) 35(0,-34) 36(-2,-34) 37(0,-36) 38(-2,-36) 39(0,-38) 40(-2,-38) 41(0,-40) 42(-2,-40) 43(0,-42) 44(-2,-42) 45(0,-44) 46(-2,-44) 47(0,-46) 48(-2,-46) 49(0,-48) 50(-2,-48) 51(0,-50) 52(-2,-50) 53(0,-52) 54(-2,-52) 55(0,-54) 56(-2,-54) 57(0,-56) 58(-2,-56) 59(0,-58) 60(-2,-58) 61(0,-60) 62(-2,-60) 63(0,-62) 64(-2,-62) 65(0,-64) 66(-2,-64) 67(0,-66) 68(-2,-66) 69(0,-68) 70(-2,-68) 71(0,-70) 72(-2,-70)
F.SilkS:
  drawing of 202 lines, arcs and shapes, not listed
Top Assembly:
  lines w0.254: -3.27,-70.3 0,-70.3 0,-69.7 -3.27,-69.7 ; -3.27,-68.3 0,-68.3 0,-67.7 -3.27,-67.7 ; -3.27,-66.3 0,-66.3 0,-65.7 -3.27,-65.7 ; -3.27,-64.3 0,-64.3 0,-63.7 -3.27,-63.7 ; -3.27,-62.3 0,-62.3 0,-61.7 -3.27,-61.7 ; -3.27,-60.3 0,-60.3 0,-59.7 -3.27,-59.7 ; -3.27,-58.3 0,-58.3 0,-57.7 -3.27,-57.7 ; -3.27,-56.3 0,-56.3 0,-55.7 -3.27,-55.7 ; -3.27,-54.3 0,-54.3 0,-53.7 -3.27,-53.7 ; -3.27,-52.3 0,-52.3 0,-51.7 -3.27,-51.7 ; -3.27,-50.3 0,-50.3 0,-49.7 -3.27,-49.7 ; -3.27,-48.3 0,-48.3 0,-47.7 -3.27,-47.7 ; -3.27,-46.3 0,-46.3 0,-45.7 -3.27,-45.7 ; -3.27,-44.3 0,-44.3 0,-43.7 -3.27,-43.7 ; -3.27,-42.3 0,-42.3 0,-41.7 -3.27,-41.7 ; -3.27,-40.3 0,-40.3 0,-39.7 -3.27,-39.7 ; -3.27,-38.3 0,-38.3 0,-37.7 -3.27,-37.7 ; -3.27,-36.3 0,-36.3 0,-35.7 -3.27,-35.7 ; -3.27,-34.3 0,-34.3 0,-33.7 -3.27,-33.7 ; -3.27,-32.3 0,-32.3 0,-31.7 -3.27,-31.7 ; -3.27,-30.3 0,-30.3 0,-29.7 -3.27,-29.7 ; -3.27,-28.3 0,-28.3 0,-27.7 -3.27,-27.7 ; -3.27,-26.3 0,-26.3 0,-25.7 -3.27,-25.7 ; -3.27,-24.3 0,-24.3 0,-23.7 -3.27,-23.7 ; -3.27,-22.3 0,-22.3 0,-21.7 -3.27,-21.7 ; -3.27,-20.3 0,-20.3 0,-19.7 -3.27,-19.7 ; -3.27,-18.3 0,-18.3 0,-17.7 -3.27,-17.7 ; -3.27,-16.3 0,-16.3 0,-15.7 -3.27,-15.7 ; -3.27,-14.3 0,-14.3 0,-13.7 -3.27,-13.7 ; -3.27,-12.3 0,-12.3 0,-11.7 -3.27,-11.7 ; -3.27,-10.3 0,-10.3 0,-9.7 -3.27,-9.7 ; -3.27,-8.3 0,-8.3 0,-7.7 -3.27,-7.7 ; -3.27,-6.3 0,-6.3 0,-5.7 -3.27,-5.7 ; -3.27,-4.3 0,-4.3 0,-3.7 -3.27,-3.7 ; -3.27,-2.3 0,-2.3 0,-1.7 -3.27,-1.7 ; -3.27,-0.3 0,-0.3 0,0.3 -3.27,0.3 ; -3.27,0.3 -3.27,-71 -9.62,-71 -9.62,1 -3.97,1 -3.27,0.3
  text "'.Designator'" at -5.605,-39.047 h1
Top Courtyard:
  lines w0.254: -10.15,-71.5 1.5,-71.5 1.5,1.5 -10.15,1.5 -10.15,-71.5
Top Designator:
  text ".Designator" at -11.943,-35.508 h1.52

## PinSocket_2x36_P2.00mm_Vertical [mm]
pads (72):
  rect 1.35x1.35 hole 0.8: 1(0,0)
  round 1.35 hole 0.8: 2(-2,0) 3(0,-2) 4(-2,-2) 5(0,-4) 6(-2,-4) 7(0,-6) 8(-2,-6) 9(0,-8) 10(-2,-8) 11(0,-10) 12(-2,-10) 13(0,-12) 14(-2,-12) 15(0,-14) 16(-2,-14) 17(0,-16) 18(-2,-16) 19(0,-18) 20(-2,-18) 21(0,-20) 22(-2,-20) 23(0,-22) 24(-2,-22) 25(0,-24) 26(-2,-24) 27(0,-26) 28(-2,-26) 29(0,-28) 30(-2,-28) 31(0,-30) 32(-2,-30) 33(0,-32) 34(-2,-32) 35(0,-34) 36(-2,-34) 37(0,-36) 38(-2,-36) 39(0,-38) 40(-2,-38) 41(0,-40) 42(-2,-40) 43(0,-42) 44(-2,-42) 45(0,-44) 46(-2,-44) 47(0,-46) 48(-2,-46) 49(0,-48) 50(-2,-48) 51(0,-50) 52(-2,-50) 53(0,-52) 54(-2,-52) 55(0,-54) 56(-2,-54) 57(0,-56) 58(-2,-56) 59(0,-58) 60(-2,-58) 61(0,-60) 62(-2,-60) 63(0,-62) 64(-2,-62) 65(0,-64) 66(-2,-64) 67(0,-66) 68(-2,-66) 69(0,-68) 70(-2,-68) 71(0,-70) 72(-2,-70)
F.SilkS:
  lines w0.254: 0,1.06 1.06,1.06 1.06,0 ; -3.06,-71.06 1.06,-71.06 1.06,-1 -1,-1 -1,1.06 -3.06,1.06 -3.06,-71.06
Top Assembly:
  lines w0.254: -3,-71 1,-71 1,0 0,1 -3,1 -3,-71
  text "'.Designator'" at -0.16,-39.047 h1
Top Courtyard:
  lines w0.254: -3.5,-71.5 1.5,-71.5 1.5,1.5 -3.5,1.5 -3.5,-71.5
Top Designator:
  text ".Designator" at -8.618,-35.508 h1.52

## PinSocket_2x36_P2.00mm_Vertical_SMD [mm]
pads (72):
  rect 2.75x1 smd: 1(3.125,35) 2(-3.125,35) 3(3.125,33) 4(-3.125,33) 5(3.125,31) 6(-3.125,31) 7(3.125,29) 8(-3.125,29) 9(3.125,27) 10(-3.125,27) 11(3.125,25) 12(-3.125,25) 13(3.125,23) 14(-3.125,23) 15(3.125,21) 16(-3.125,21) 17(3.125,19) 18(-3.125,19) 19(3.125,17) 20(-3.125,17) 21(3.125,15) 22(-3.125,15) 23(3.125,13) 24(-3.125,13) 25(3.125,11) 26(-3.125,11) 27(3.125,9) 28(-3.125,9) 29(3.125,7) 30(-3.125,7) 31(3.125,5) 32(-3.125,5) 33(3.125,3) 34(-3.125,3) 35(3.125,1) 36(-3.125,1) 37(3.125,-1) 38(-3.125,-1) 39(3.125,-3) 40(-3.125,-3) 41(3.125,-5) 42(-3.125,-5) 43(3.125,-7) 44(-3.125,-7) 45(3.125,-9) 46(-3.125,-9) 47(3.125,-11) 48(-3.125,-11) 49(3.125,-13) 50(-3.125,-13) 51(3.125,-15) 52(-3.125,-15) 53(3.125,-17) 54(-3.125,-17) 55(3.125,-19) 56(-3.125,-19) 57(3.125,-21) 58(-3.125,-21) 59(3.125,-23) 60(-3.125,-23) 61(3.125,-25) 62(-3.125,-25) 63(3.125,-27) 64(-3.125,-27) 65(3.125,-29) 66(-3.125,-29) 67(3.125,-31) 68(-3.125,-31) 69(3.125,-33) 70(-3.125,-33) 71(3.125,-35) 72(-3.125,-35)
F.SilkS:
  lines w0.254: -2.06,-35.76 -2.06,-36.06 2.06,-36.06 2.06,-35.76 ; -2.06,-34.24 -2.06,-33.76 ; -2.06,-32.24 -2.06,-31.76 ; -2.06,-30.24 -2.06,-29.76 ; -2.06,-28.24 -2.06,-27.76 ; -2.06,-26.24 -2.06,-25.76 ; -2.06,-24.24 -2.06,-23.76 ; -2.06,-22.24 -2.06,-21.76 ; -2.06,-20.24 -2.06,-19.76 ; -2.06,-18.24 -2.06,-17.76 ; -2.06,-16.24 -2.06,-15.76 ; -2.06,-14.24 -2.06,-13.76 ; -2.06,-12.24 -2.06,-11.76 ; -2.06,-10.24 -2.06,-9.76 ; -2.06,-8.24 -2.06,-7.76 ; -2.06,-6.24 -2.06,-5.76 ; -2.06,-4.24 -2.06,-3.76 ; -2.06,-2.24 -2.06,-1.76 ; -2.06,-0.24 -2.06,0.24 ; -2.06,1.76 -2.06,2.24 ; -2.06,3.76 -2.06,4.24 ; -2.06,5.76 -2.06,6.24 ; -2.06,7.76 -2.06,8.24 ; -2.06,9.76 -2.06,10.24 ; -2.06,11.76 -2.06,12.24 ; -2.06,13.76 -2.06,14.24 ; -2.06,15.76 -2.06,16.24 ; -2.06,17.76 -2.06,18.24 ; -2.06,19.76 -2.06,20.24 ; -2.06,21.76 -2.06,22.24 ; -2.06,23.76 -2.06,24.24 ; -2.06,25.76 -2.06,26.24 ; -2.06,27.76 -2.06,28.24 ; -2.06,29.76 -2.06,30.24 ; -2.06,31.76 -2.06,32.24 ; -2.06,33.76 -2.06,34.24 ; -2.06,35.76 -2.06,36.06 2.06,36.06 2.06,35.76 4.44,35.76 ; 2.06,-34.24 2.06,-33.76 ; 2.06,-32.24 2.06,-31.76 ; 2.06,-30.24 2.06,-29.76 ; 2.06,-28.24 2.06,-27.76 ; 2.06,-26.24 2.06,-25.76 ; 2.06,-24.24 2.06,-23.76 ; 2.06,-22.24 2.06,-21.76 ; 2.06,-20.24 2.06,-19.76 ; 2.06,-18.24 2.06,-17.76 ; 2.06,-16.24 2.06,-15.76 ; 2.06,-14.24 2.06,-13.76 ; 2.06,-12.24 2.06,-11.76 ; 2.06,-10.24 2.06,-9.76 ; 2.06,-8.24 2.06,-7.76 ; 2.06,-6.24 2.06,-5.76 ; 2.06,-4.24 2.06,-3.76 ; 2.06,-2.24 2.06,-1.76 ; 2.06,-0.24 2.06,0.24 ; 2.06,1.76 2.06,2.24 ; 2.06,3.76 2.06,4.24 ; 2.06,5.76 2.06,6.24 ; 2.06,7.76 2.06,8.24 ; 2.06,9.76 2.06,10.24 ; 2.06,11.76 2.06,12.24 ; 2.06,13.76 2.06,14.24 ; 2.06,15.76 2.06,16.24 ; 2.06,17.76 2.06,18.24 ; 2.06,19.76 2.06,20.24 ; 2.06,21.76 2.06,22.24 ; 2.06,23.76 2.06,24.24 ; 2.06,25.76 2.06,26.24 ; 2.06,27.76 2.06,28.24 ; 2.06,29.76 2.06,30.24 ; 2.06,31.76 2.06,32.24 ; 2.06,33.76 2.06,34.24
Top Assembly:
  drawing of 221 lines, arcs and shapes, not listed
  text "'.Designator'" at 0.84,-4.047 h1
Top Courtyard:
  lines w0.254: -5,-36.5 5,-36.5 5,36.5 -5,36.5 -5,-36.5
Top Designator:
  text ".Designator" at -7.618,-0.508 h1.52

## PinSocket_2x37_P2.00mm_Horizontal [mm]
pads (74):
  rect 1.35x1.35 hole 0.8: 1(0,0)
  round 1.35 hole 0.8: 2(-2,0) 3(0,-2) 4(-2,-2) 5(0,-4) 6(-2,-4) 7(0,-6) 8(-2,-6) 9(0,-8) 10(-2,-8) 11(0,-10) 12(-2,-10) 13(0,-12) 14(-2,-12) 15(0,-14) 16(-2,-14) 17(0,-16) 18(-2,-16) 19(0,-18) 20(-2,-18) 21(0,-20) 22(-2,-20) 23(0,-22) 24(-2,-22) 25(0,-24) 26(-2,-24) 27(0,-26) 28(-2,-26) 29(0,-28) 30(-2,-28) 31(0,-30) 32(-2,-30) 33(0,-32) 34(-2,-32) 35(0,-34) 36(-2,-34) 37(0,-36) 38(-2,-36) 39(0,-38) 40(-2,-38) 41(0,-40) 42(-2,-40) 43(0,-42) 44(-2,-42) 45(0,-44) 46(-2,-44) 47(0,-46) 48(-2,-46) 49(0,-48) 50(-2,-48) 51(0,-50) 52(-2,-50) 53(0,-52) 54(-2,-52) 55(0,-54) 56(-2,-54) 57(0,-56) 58(-2,-56) 59(0,-58) 60(-2,-58) 61(0,-60) 62(-2,-60) 63(0,-62) 64(-2,-62) 65(0,-64) 66(-2,-64) 67(0,-66) 68(-2,-66) 69(0,-68) 70(-2,-68) 71(0,-70) 72(-2,-70) 73(0,-72) 74(-2,-72)
F.SilkS:
  drawing of 207 lines, arcs and shapes, not listed
Top Assembly:
  lines w0.254: -3.27,-72.3 0,-72.3 0,-71.7 -3.27,-71.7 ; -3.27,-70.3 0,-70.3 0,-69.7 -3.27,-69.7 ; -3.27,-68.3 0,-68.3 0,-67.7 -3.27,-67.7 ; -3.27,-66.3 0,-66.3 0,-65.7 -3.27,-65.7 ; -3.27,-64.3 0,-64.3 0,-63.7 -3.27,-63.7 ; -3.27,-62.3 0,-62.3 0,-61.7 -3.27,-61.7 ; -3.27,-60.3 0,-60.3 0,-59.7 -3.27,-59.7 ; -3.27,-58.3 0,-58.3 0,-57.7 -3.27,-57.7 ; -3.27,-56.3 0,-56.3 0,-55.7 -3.27,-55.7 ; -3.27,-54.3 0,-54.3 0,-53.7 -3.27,-53.7 ; -3.27,-52.3 0,-52.3 0,-51.7 -3.27,-51.7 ; -3.27,-50.3 0,-50.3 0,-49.7 -3.27,-49.7 ; -3.27,-48.3 0,-48.3 0,-47.7 -3.27,-47.7 ; -3.27,-46.3 0,-46.3 0,-45.7 -3.27,-45.7 ; -3.27,-44.3 0,-44.3 0,-43.7 -3.27,-43.7 ; -3.27,-42.3 0,-42.3 0,-41.7 -3.27,-41.7 ; -3.27,-40.3 0,-40.3 0,-39.7 -3.27,-39.7 ; -3.27,-38.3 0,-38.3 0,-37.7 -3.27,-37.7 ; -3.27,-36.3 0,-36.3 0,-35.7 -3.27,-35.7 ; -3.27,-34.3 0,-34.3 0,-33.7 -3.27,-33.7 ; -3.27,-32.3 0,-32.3 0,-31.7 -3.27,-31.7 ; -3.27,-30.3 0,-30.3 0,-29.7 -3.27,-29.7 ; -3.27,-28.3 0,-28.3 0,-27.7 -3.27,-27.7 ; -3.27,-26.3 0,-26.3 0,-25.7 -3.27,-25.7 ; -3.27,-24.3 0,-24.3 0,-23.7 -3.27,-23.7 ; -3.27,-22.3 0,-22.3 0,-21.7 -3.27,-21.7 ; -3.27,-20.3 0,-20.3 0,-19.7 -3.27,-19.7 ; -3.27,-18.3 0,-18.3 0,-17.7 -3.27,-17.7 ; -3.27,-16.3 0,-16.3 0,-15.7 -3.27,-15.7 ; -3.27,-14.3 0,-14.3 0,-13.7 -3.27,-13.7 ; -3.27,-12.3 0,-12.3 0,-11.7 -3.27,-11.7 ; -3.27,-10.3 0,-10.3 0,-9.7 -3.27,-9.7 ; -3.27,-8.3 0,-8.3 0,-7.7 -3.27,-7.7 ; -3.27,-6.3 0,-6.3 0,-5.7 -3.27,-5.7 ; -3.27,-4.3 0,-4.3 0,-3.7 -3.27,-3.7 ; -3.27,-2.3 0,-2.3 0,-1.7 -3.27,-1.7 ; -3.27,-0.3 0,-0.3 0,0.3 -3.27,0.3 ; -3.27,0.3 -3.27,-73 -9.62,-73 -9.62,1 -3.97,1 -3.27,0.3
  text "'.Designator'" at -5.605,-40.047 h1
Top Courtyard:
  lines w0.254: -10.15,-73.5 1.5,-73.5 1.5,1.5 -10.15,1.5 -10.15,-73.5
Top Designator:
  text ".Designator" at -11.943,-36.508 h1.52

## PinSocket_2x37_P2.00mm_Vertical [mm]
pads (74):
  rect 1.35x1.35 hole 0.8: 1(0,0)
  round 1.35 hole 0.8: 2(-2,0) 3(0,-2) 4(-2,-2) 5(0,-4) 6(-2,-4) 7(0,-6) 8(-2,-6) 9(0,-8) 10(-2,-8) 11(0,-10) 12(-2,-10) 13(0,-12) 14(-2,-12) 15(0,-14) 16(-2,-14) 17(0,-16) 18(-2,-16) 19(0,-18) 20(-2,-18) 21(0,-20) 22(-2,-20) 23(0,-22) 24(-2,-22) 25(0,-24) 26(-2,-24) 27(0,-26) 28(-2,-26) 29(0,-28) 30(-2,-28) 31(0,-30) 32(-2,-30) 33(0,-32) 34(-2,-32) 35(0,-34) 36(-2,-34) 37(0,-36) 38(-2,-36) 39(0,-38) 40(-2,-38) 41(0,-40) 42(-2,-40) 43(0,-42) 44(-2,-42) 45(0,-44) 46(-2,-44) 47(0,-46) 48(-2,-46) 49(0,-48) 50(-2,-48) 51(0,-50) 52(-2,-50) 53(0,-52) 54(-2,-52) 55(0,-54) 56(-2,-54) 57(0,-56) 58(-2,-56) 59(0,-58) 60(-2,-58) 61(0,-60) 62(-2,-60) 63(0,-62) 64(-2,-62) 65(0,-64) 66(-2,-64) 67(0,-66) 68(-2,-66) 69(0,-68) 70(-2,-68) 71(0,-70) 72(-2,-70) 73(0,-72) 74(-2,-72)
F.SilkS:
  lines w0.254: 0,1.06 1.06,1.06 1.06,0 ; -3.06,-73.06 1.06,-73.06 1.06,-1 -1,-1 -1,1.06 -3.06,1.06 -3.06,-73.06
Top Assembly:
  lines w0.254: -3,-73 1,-73 1,0 0,1 -3,1 -3,-73
  text "'.Designator'" at -0.16,-40.047 h1
Top Courtyard:
  lines w0.254: -3.5,-73.5 1.5,-73.5 1.5,1.5 -3.5,1.5 -3.5,-73.5
Top Designator:
  text ".Designator" at -8.618,-36.508 h1.52